# Altium integrated library Capacitor - Aluminium TH.IntLib: 4591 symbols (part 26 of 68)
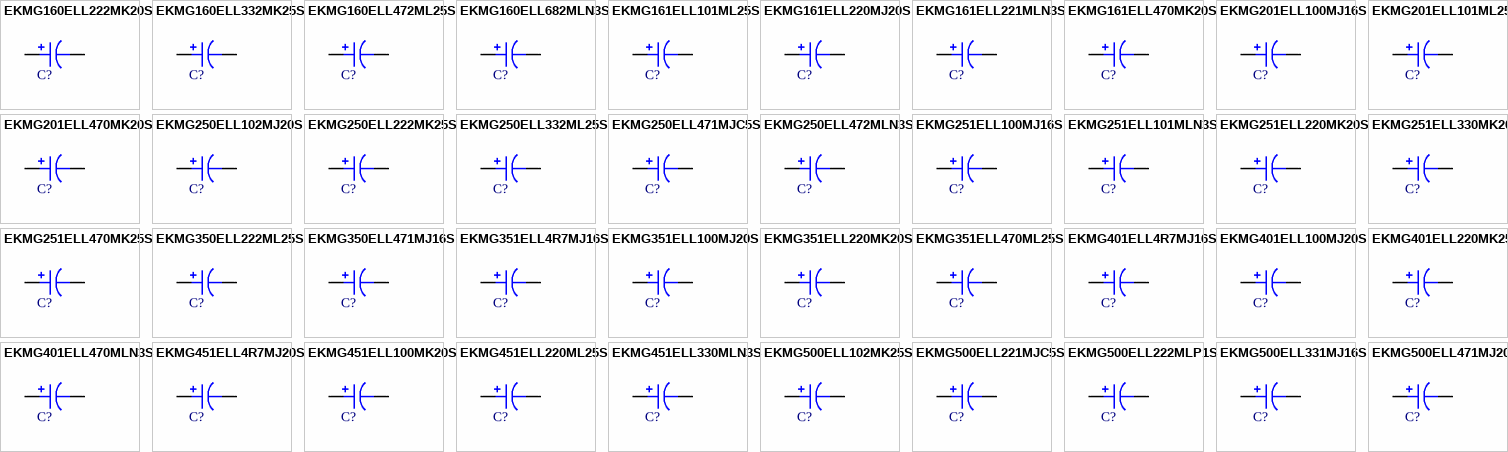
[diagram p139: symbols EKMG160ELL222MK20S to EKMG500ELL471MJ20S]

## EKMG250ELL472MLN3S
designator C?, comment 4700uF  (value not drawn)
CAP ALUM 4700UF 20% 25V RADIAL; Part Number: EKMG250ELL472MLN3S; Manufacturer: United Chemi-Con; TemperatureRange: -55C ~ 105C; Type: Polar; Ripple Current: 1.71A @ 120Hz; Value: 4700uF; PartId: 27086; Supplier 1: Digi-Key; Supplier Part Number 1: 565-1314-ND; ComponentLink1Description: Datasheet; ComponentLink1URL: http://www.chemi-con.co.jp/cgi-bin/CAT_DB/SEARCH/cat_db_al.cgi?e=e&j=p&pdfname=kmg; ComponentLink2Description: Digi-Key Listing; ComponentLink2URL: https://www.digikey.com/product-detail/en/united-chemi-con/EKMG250ELL472MLN3S/565-1314-ND/755830; Tolerance: 20%; Voltage: 25V; Price: 1.71; Device Package: Radial, Can, 16mm
footprint CAP AL TH D16 L7.5 H33.5
pins: 1, 2

## EKMG251ELL100MJ16S
designator C?, comment 10uF  (value not drawn)
CAP ALUM 10UF 20% 250V RADIAL; Part Number: EKMG251ELL100MJ16S; Manufacturer: United Chemi-Con; TemperatureRange: -40C ~ 105C; Type: Polar; Ripple Current: 74mA @ 120Hz; Value: 10uF; PartId: 25348; Supplier 1: Digi-Key; Supplier Part Number 1: 565-1393-ND; ComponentLink1Description: Datasheet; ComponentLink1URL: http://www.chemi-con.co.jp/cgi-bin/CAT_DB/SEARCH/cat_db_al.cgi?e=e&j=p&pdfname=kmg; ComponentLink2Description: Digi-Key Listing; ComponentLink2URL: https://www.digikey.com/product-detail/en/united-chemi-con/EKMG251ELL100MJ16S/565-1393-ND/755909; Tolerance: 20%; Voltage: 250V; Price: 0.68; Device Package: Radial, Can, 10mm
footprint CAP AL TH D10 L5 H17.5
pins: 1, 2

## EKMG251ELL101MLN3S
designator C?, comment 100uF  (value not drawn)
CAP ALUM 100UF 20% 250V RADIAL; Part Number: EKMG251ELL101MLN3S; Manufacturer: United Chemi-Con; TemperatureRange: -40C ~ 105C; Type: Polar; Ripple Current: 365mA @ 120Hz; Value: 100uF; PartId: 27159; Supplier 1: Digi-Key; Supplier Part Number 1: 565-1397-ND; ComponentLink1Description: Datasheet; ComponentLink1URL: http://www.chemi-con.co.jp/cgi-bin/CAT_DB/SEARCH/cat_db_al.cgi?e=e&j=p&pdfname=kmg; ComponentLink2Description: Digi-Key Listing; ComponentLink2URL: https://www.digikey.com/product-detail/en/united-chemi-con/EKMG251ELL101MLN3S/565-1397-ND/755913; Tolerance: 20%; Voltage: 250V; Price: 1.87; Device Package: Radial, Can, 16mm
footprint CAP AL TH D16 L7.5 H33.5
pins: 1, 2

## EKMG251ELL220MK20S
designator C?, comment 22uF  (value not drawn)
CAP ALUM 22UF 20% 250V RADIAL; Part Number: EKMG251ELL220MK20S; Manufacturer: United Chemi-Con; TemperatureRange: -40C ~ 105C; Type: Polar; Ripple Current: 130mA @ 120Hz; Value: 22uF; PartId: 23006; Supplier 1: Digi-Key; Supplier Part Number 1: 565-1394-ND; ComponentLink1Description: Datasheet; ComponentLink1URL: http://www.chemi-con.co.jp/cgi-bin/CAT_DB/SEARCH/cat_db_al.cgi?e=e&j=p&pdfname=kmg; ComponentLink2Description: Digi-Key Listing; ComponentLink2URL: https://www.digikey.com/product-detail/en/united-chemi-con/EKMG251ELL220MK20S/565-1394-ND/755910; Tolerance: 20%; Voltage: 250V; Price: 0; Device Package: Radial, Can, 12.5mm
footprint CAP AL TH D12.5 L5 H21.5
pins: 1, 2

## EKMG251ELL330MK20S
designator C?, comment 33uF  (value not drawn)
CAP ALUM 33UF 20% 250V RADIAL; Part Number: EKMG251ELL330MK20S; Manufacturer: United Chemi-Con; TemperatureRange: -40C ~ 105C; Type: Polar; Ripple Current: 160mA @ 120Hz; Value: 33uF; PartId: 23022; Supplier 1: Digi-Key; Supplier Part Number 1: 565-1395-ND; ComponentLink1Description: Datasheet; ComponentLink1URL: http://www.chemi-con.co.jp/cgi-bin/CAT_DB/SEARCH/cat_db_al.cgi?e=e&j=p&pdfname=kmg; ComponentLink2Description: Digi-Key Listing; ComponentLink2URL: https://www.digikey.com/product-detail/en/united-chemi-con/EKMG251ELL330MK20S/565-1395-ND/755911; Tolerance: 20%; Voltage: 250V; Price: 0; Device Package: Radial, Can, 12.5mm
footprint CAP AL TH D12.5 L5 H21.5
pins: 1, 2

## EKMG251ELL470MK25S
designator C?, comment 47uF  (value not drawn)
CAP ALUM 47UF 20% 250V RADIAL; Part Number: EKMG251ELL470MK25S; Manufacturer: United Chemi-Con; TemperatureRange: -40C ~ 105C; Type: Polar; Ripple Current: 210mA @ 120Hz; Value: 47uF; PartId: 23718; Supplier 1: Digi-Key; Supplier Part Number 1: 565-1396-ND; ComponentLink1Description: Datasheet; ComponentLink1URL: http://www.chemi-con.co.jp/cgi-bin/CAT_DB/SEARCH/cat_db_al.cgi?e=e&j=p&pdfname=kmg; ComponentLink2Description: Digi-Key Listing; ComponentLink2URL: https://www.digikey.com/product-detail/en/united-chemi-con/EKMG251ELL470MK25S/565-1396-ND/755912; Tolerance: 20%; Voltage: 250V; Price: 1.22; Device Package: Radial, Can, 12.5mm
footprint CAP AL TH D12.5 L5 H26.5
pins: 1, 2

## EKMG350ELL222ML25S
designator C?, comment 2200uF  (value not drawn)
CAP ALUM 2200UF 20% 35V RADIAL; Part Number: EKMG350ELL222ML25S; Manufacturer: United Chemi-Con; TemperatureRange: -55C ~ 105C; Type: Polar; Ripple Current: 1.26A @ 120Hz; Value: 2200uF; PartId: 26601; Supplier 1: Digi-Key; Supplier Part Number 1: 565-1326-ND; ComponentLink1Description: Datasheet; ComponentLink1URL: http://www.chemi-con.co.jp/cgi-bin/CAT_DB/SEARCH/cat_db_al.cgi?e=e&j=p&pdfname=kmg; ComponentLink2Description: Digi-Key Listing; ComponentLink2URL: https://www.digikey.com/product-detail/en/united-chemi-con/EKMG350ELL222ML25S/565-1326-ND/755842; Tolerance: 20%; Voltage: 35V; Price: 1.33; Device Package: Radial, Can, 16mm
footprint CAP AL TH D16 L7.5 H26.5
pins: 1, 2

## EKMG350ELL471MJ16S
designator C?, comment 470uF  (value not drawn)
CAP ALUM 470UF 20% 35V RADIAL; Part Number: EKMG350ELL471MJ16S; Manufacturer: United Chemi-Con; TemperatureRange: -55C ~ 105C; Type: Polar; Ripple Current: 460mA @ 120Hz; Value: 470uF; PartId: 25272; Supplier 1: Digi-Key; Supplier Part Number 1: 565-1324-ND; ComponentLink1Description: Datasheet; ComponentLink1URL: http://www.chemi-con.co.jp/cgi-bin/CAT_DB/SEARCH/cat_db_al.cgi?e=e&j=p&pdfname=kmg; ComponentLink2Description: Digi-Key Listing; ComponentLink2URL: https://www.digikey.com/product-detail/en/united-chemi-con/EKMG350ELL471MJ16S/565-1324-ND/755840; Tolerance: 20%; Voltage: 35V; Price: 0.61; Device Package: Radial, Can, 10mm
footprint CAP AL TH D10 L5 H17.5
pins: 1, 2

## EKMG351ELL4R7MJ16S
designator C?, comment 4.7uF  (value not drawn)
CAP ALUM 4.7UF 20% 350V RADIAL; Part Number: EKMG351ELL4R7MJ16S; Manufacturer: United Chemi-Con; TemperatureRange: -40C ~ 105C; Type: Polar; Ripple Current: 50mA @ 120Hz; Value: 4.7uF; PartId: 25362; Supplier 1: Digi-Key; Supplier Part Number 1: 565-1403-ND; ComponentLink1Description: Datasheet; ComponentLink1URL: http://www.chemi-con.co.jp/cgi-bin/CAT_DB/SEARCH/cat_db_al.cgi?e=e&j=p&pdfname=kmg; ComponentLink2Description: Digi-Key Listing; ComponentLink2URL: https://www.digikey.com/product-detail/en/united-chemi-con/EKMG351ELL4R7MJ16S/565-1403-ND/755919; Tolerance: 20%; Voltage: 350V; Price: 0.71; Device Package: Radial, Can, 10mm
footprint CAP AL TH D10 L5 H17.5
pins: 1, 2

## EKMG351ELL100MJ20S
designator C?, comment 10uF  (value not drawn)
CAP ALUM 10UF 20% 350V RADIAL; Part Number: EKMG351ELL100MJ20S; Manufacturer: United Chemi-Con; TemperatureRange: -40C ~ 105C; Type: Polar; Ripple Current: 80mA @ 120Hz; Value: 10uF; PartId: 25678; Supplier 1: Digi-Key; Supplier Part Number 1: 565-1404-ND; ComponentLink1Description: Datasheet; ComponentLink1URL: http://www.chemi-con.co.jp/cgi-bin/CAT_DB/SEARCH/cat_db_al.cgi?e=e&j=p&pdfname=kmg; ComponentLink2Description: Digi-Key Listing; ComponentLink2URL: https://www.digikey.com/product-detail/en/united-chemi-con/EKMG351ELL100MJ20S/565-1404-ND/755920; Tolerance: 20%; Voltage: 350V; Price: 0.79; Device Package: Radial, Can, 10mm
footprint CAP AL TH D10 L5 H22
pins: 1, 2

## EKMG351ELL220MK20S
designator C?, comment 22uF  (value not drawn)
CAP ALUM 22UF 20% 350V RADIAL; Part Number: EKMG351ELL220MK20S; Manufacturer: United Chemi-Con; TemperatureRange: -40C ~ 105C; Type: Polar; Ripple Current: 130mA @ 120Hz; Value: 22uF; PartId: 23037; Supplier 1: Digi-Key; Supplier Part Number 1: 565-1405-ND; ComponentLink1Description: Datasheet; ComponentLink1URL: http://www.chemi-con.co.jp/cgi-bin/CAT_DB/SEARCH/cat_db_al.cgi?e=e&j=p&pdfname=kmg; ComponentLink2Description: Digi-Key Listing; ComponentLink2URL: https://www.digikey.com/product-detail/en/united-chemi-con/EKMG351ELL220MK20S/565-1405-ND/755921; Tolerance: 20%; Voltage: 350V; Price: 0; Device Package: Radial, Can, 12.5mm
footprint CAP AL TH D12.5 L5 H21.5
pins: 1, 2

## EKMG351ELL470ML25S
designator C?, comment 47uF  (value not drawn)
CAP ALUM 47UF 20% 350V RADIAL; Part Number: EKMG351ELL470ML25S; Manufacturer: United Chemi-Con; TemperatureRange: -40C ~ 105C; Type: Polar; Ripple Current: 230mA @ 120Hz; Value: 47uF; PartId: 26689; Supplier 1: Digi-Key; Supplier Part Number 1: 565-1407-ND; ComponentLink1Description: Datasheet; ComponentLink1URL: http://www.chemi-con.co.jp/cgi-bin/CAT_DB/SEARCH/cat_db_al.cgi?e=e&j=p&pdfname=kmg; ComponentLink2Description: Digi-Key Listing; ComponentLink2URL: https://www.digikey.com/product-detail/en/united-chemi-con/EKMG351ELL470ML25S/565-1407-ND/755923; Tolerance: 20%; Voltage: 350V; Price: 1.83; Device Package: Radial, Can, 16mm
footprint CAP AL TH D16 L7.5 H26.5
pins: 1, 2

## EKMG401ELL4R7MJ16S
designator C?, comment 4.7uF  (value not drawn)
CAP ALUM 4.7UF 20% 400V RADIAL; Part Number: EKMG401ELL4R7MJ16S; Manufacturer: United Chemi-Con; TemperatureRange: -40C ~ 105C; Type: Polar; Ripple Current: 50mA @ 120Hz; Value: 4.7uF; PartId: 25301; Supplier 1: Digi-Key; Supplier Part Number 1: 565-1411-ND; ComponentLink1Description: Datasheet; ComponentLink1URL: http://www.chemi-con.co.jp/cgi-bin/CAT_DB/SEARCH/cat_db_al.cgi?e=e&j=p&pdfname=kmg; ComponentLink2Description: Digi-Key Listing; ComponentLink2URL: https://www.digikey.com/product-detail/en/united-chemi-con/EKMG401ELL4R7MJ16S/565-1411-ND/755927; Tolerance: 20%; Voltage: 400V; Price: 0.64; Device Package: Radial, Can, 10mm
footprint CAP AL TH D10 L5 H17.5
pins: 1, 2

## EKMG401ELL100MJ20S
designator C?, comment 10uF  (value not drawn)
CAP ALUM 10UF 20% 400V RADIAL; Part Number: EKMG401ELL100MJ20S; Manufacturer: United Chemi-Con; TemperatureRange: -40C ~ 105C; Type: Polar; Ripple Current: 80mA @ 120Hz; Value: 10uF; PartId: 25646; Supplier 1: Digi-Key; Supplier Part Number 1: 565-1412-ND; ComponentLink1Description: Datasheet; ComponentLink1URL: http://www.chemi-con.co.jp/cgi-bin/CAT_DB/SEARCH/cat_db_al.cgi?e=e&j=p&pdfname=kmg; ComponentLink2Description: Digi-Key Listing; ComponentLink2URL: https://www.digikey.com/product-detail/en/united-chemi-con/EKMG401ELL100MJ20S/565-1412-ND/755928; Tolerance: 20%; Voltage: 400V; Price: 0.74; Device Package: Radial, Can, 10mm
footprint CAP AL TH D10 L5 H22
pins: 1, 2

## EKMG401ELL220MK25S
designator C?, comment 22uF  (value not drawn)
CAP ALUM 22UF 20% 400V RADIAL; Part Number: EKMG401ELL220MK25S; Manufacturer: United Chemi-Con; TemperatureRange: -40C ~ 105C; Type: Polar; Ripple Current: 145mA @ 120Hz; Value: 22uF; PartId: 23696; Supplier 1: Digi-Key; Supplier Part Number 1: 565-1413-ND; ComponentLink1Description: Datasheet; ComponentLink1URL: http://www.chemi-con.co.jp/cgi-bin/CAT_DB/SEARCH/cat_db_al.cgi?e=e&j=p&pdfname=kmg; ComponentLink2Description: Digi-Key Listing; ComponentLink2URL: https://www.digikey.com/product-detail/en/united-chemi-con/EKMG401ELL220MK25S/565-1413-ND/755929; Tolerance: 20%; Voltage: 400V; Price: 1.09; Device Package: Radial, Can, 12.5mm
footprint CAP AL TH D12.5 L5 H26.5
pins: 1, 2

## EKMG401ELL470MLN3S
designator C?, comment 47uF  (value not drawn)
CAP ALUM 47UF 20% 400V RADIAL; Part Number: EKMG401ELL470MLN3S; Manufacturer: United Chemi-Con; TemperatureRange: -40C ~ 105C; Type: Polar; Ripple Current: 250mA @ 120Hz; Value: 47uF; PartId: 27154; Supplier 1: Digi-Key; Supplier Part Number 1: 565-1415-ND; ComponentLink1Description: Datasheet; ComponentLink1URL: http://www.chemi-con.co.jp/cgi-bin/CAT_DB/SEARCH/cat_db_al.cgi?e=e&j=p&pdfname=kmg; ComponentLink2Description: Digi-Key Listing; ComponentLink2URL: https://www.digikey.com/product-detail/en/united-chemi-con/EKMG401ELL470MLN3S/565-1415-ND/755931; Tolerance: 20%; Voltage: 400V; Price: 1.86; Device Package: Radial, Can, 16mm
footprint CAP AL TH D16 L7.5 H33.5
pins: 1, 2

## EKMG451ELL4R7MJ20S
designator C?, comment 4.7uF  (value not drawn)
CAP ALUM 4.7UF 20% 450V RADIAL; Part Number: EKMG451ELL4R7MJ20S; Manufacturer: United Chemi-Con; TemperatureRange: -25C ~ 105C; Type: Polar; Ripple Current: 40mA @ 120Hz; Value: 4.7uF; PartId: 25669; Supplier 1: Digi-Key; Supplier Part Number 1: 565-1420-ND; ComponentLink1Description: Datasheet; ComponentLink1URL: http://www.chemi-con.co.jp/cgi-bin/CAT_DB/SEARCH/cat_db_al.cgi?e=e&j=p&pdfname=kmg; ComponentLink2Description: Digi-Key Listing; ComponentLink2URL: https://www.digikey.com/product-detail/en/united-chemi-con/EKMG451ELL4R7MJ20S/565-1420-ND/755936; Tolerance: 20%; Voltage: 450V; Price: 0.77; Device Package: Radial, Can, 10mm
footprint CAP AL TH D10 L5 H22
pins: 1, 2

## EKMG451ELL100MK20S
designator C?, comment 10uF  (value not drawn)
CAP ALUM 10UF 20% 450V RADIAL; Part Number: EKMG451ELL100MK20S; Manufacturer: United Chemi-Con; TemperatureRange: -25C ~ 105C; Type: Polar; Ripple Current: 65mA @ 120Hz; Value: 10uF; PartId: 23025; Supplier 1: Digi-Key; Supplier Part Number 1: 565-1421-ND; ComponentLink1Description: Datasheet; ComponentLink1URL: http://www.chemi-con.co.jp/cgi-bin/CAT_DB/SEARCH/cat_db_al.cgi?e=e&j=p&pdfname=kmg; ComponentLink2Description: Digi-Key Listing; ComponentLink2URL: https://www.digikey.com/product-detail/en/united-chemi-con/EKMG451ELL100MK20S/565-1421-ND/755937; Tolerance: 20%; Voltage: 450V; Price: 0; Device Package: Radial, Can, 12.5mm
footprint CAP AL TH D12.5 L5 H21.5
pins: 1, 2

## EKMG451ELL220ML25S
designator C?, comment 22uF  (value not drawn)
CAP ALUM 22UF 20% 450V RADIAL; Part Number: EKMG451ELL220ML25S; Manufacturer: United Chemi-Con; TemperatureRange: -25C ~ 105C; Type: Polar; Ripple Current: 115mA @ 120Hz; Value: 22uF; PartId: 26686; Supplier 1: Digi-Key; Supplier Part Number 1: 565-1422-ND; ComponentLink1Description: Datasheet; ComponentLink1URL: http://www.chemi-con.co.jp/cgi-bin/CAT_DB/SEARCH/cat_db_al.cgi?e=e&j=p&pdfname=kmg; ComponentLink2Description: Digi-Key Listing; ComponentLink2URL: https://www.digikey.com/product-detail/en/united-chemi-con/EKMG451ELL220ML25S/565-1422-ND/755938; Tolerance: 20%; Voltage: 450V; Price: 1.81; Device Package: Radial, Can, 16mm
footprint CAP AL TH D16 L7.5 H26.5
pins: 1, 2

## EKMG451ELL330MLN3S
designator C?, comment 33uF  (value not drawn)
CAP ALUM 33UF 20% 450V RADIAL; Part Number: EKMG451ELL330MLN3S; Manufacturer: United Chemi-Con; TemperatureRange: -25C ~ 105C; Type: Polar; Ripple Current: 155mA @ 120Hz; Value: 33uF; PartId: 27205; Supplier 1: Digi-Key; Supplier Part Number 1: 565-1423-ND; ComponentLink1Description: Datasheet; ComponentLink1URL: http://www.chemi-con.co.jp/cgi-bin/CAT_DB/SEARCH/cat_db_al.cgi?e=e&j=p&pdfname=kmg; ComponentLink2Description: Digi-Key Listing; ComponentLink2URL: https://www.digikey.com/product-detail/en/united-chemi-con/EKMG451ELL330MLN3S/565-1423-ND/755939; Tolerance: 20%; Voltage: 450V; Price: 2.13; Device Package: Radial, Can, 16mm
footprint CAP AL TH D16 L7.5 H33.5
pins: 1, 2

## EKMG500ELL102MK25S
designator C?, comment 1000uF  (value not drawn)
CAP ALUM 1000UF 20% 50V RADIAL; Part Number: EKMG500ELL102MK25S; Manufacturer: United Chemi-Con; TemperatureRange: -55C ~ 105C; Type: Polar; Ripple Current: 950mA @ 120Hz; Value: 1000uF; PartId: 23670; Supplier 1: Digi-Key; Supplier Part Number 1: 565-1344-ND; ComponentLink1Description: Datasheet; ComponentLink1URL: http://www.chemi-con.co.jp/cgi-bin/CAT_DB/SEARCH/cat_db_al.cgi?e=e&j=p&pdfname=kmg; ComponentLink2Description: Digi-Key Listing; ComponentLink2URL: https://www.digikey.com/product-detail/en/united-chemi-con/EKMG500ELL102MK25S/565-1344-ND/755860; Tolerance: 20%; Voltage: 50V; Price: 0.99; Device Package: Radial, Can, 12.5mm
footprint CAP AL TH D12.5 L5 H26.5
pins: 1, 2

## EKMG500ELL221MJC5S
designator C?, comment 220uF  (value not drawn)
CAP ALUM 220UF 20% 50V RADIAL; Part Number: EKMG500ELL221MJC5S; Manufacturer: United Chemi-Con; TemperatureRange: -55C ~ 105C; Type: Polar; Ripple Current: 300mA @ 120Hz; Value: 220uF; PartId: 24986; Supplier 1: Digi-Key; Supplier Part Number 1: 565-1341-ND; ComponentLink1Description: Datasheet; ComponentLink1URL: http://www.chemi-con.co.jp/cgi-bin/CAT_DB/SEARCH/cat_db_al.cgi?e=e&j=p&pdfname=kmg; ComponentLink2Description: Digi-Key Listing; ComponentLink2URL: https://www.digikey.com/product-detail/en/united-chemi-con/EKMG500ELL221MJC5S/565-1341-ND/755857; Tolerance: 20%; Voltage: 50V; Price: 0.55; Device Package: Radial, Can, 10mm
footprint CAP AL TH D10 L5 H14.5
pins: 1, 2

## EKMG500ELL222MLP1S
designator C?, comment 2200uF  (value not drawn)
CAP ALUM 2200UF 20% 50V RADIAL; Part Number: EKMG500ELL222MLP1S; Manufacturer: United Chemi-Con; TemperatureRange: -55C ~ 105C; Type: Polar; Ripple Current: 1.47A @ 120Hz; Value: 2200uF; PartId: 27383; Supplier 1: Digi-Key; Supplier Part Number 1: 565-1345-ND; ComponentLink1Description: Datasheet; ComponentLink1URL: http://www.chemi-con.co.jp/cgi-bin/CAT_DB/SEARCH/cat_db_al.cgi?e=e&j=p&pdfname=kmg; ComponentLink2Description: Digi-Key Listing; ComponentLink2URL: https://www.digikey.com/product-detail/en/united-chemi-con/EKMG500ELL222MLP1S/565-1345-ND/755861; Tolerance: 20%; Voltage: 50V; Price: 1.86; Device Package: Radial, Can, 16mm
footprint CAP AL TH D16 L7.5 H37
pins: 1, 2

## EKMG500ELL331MJ16S
designator C?, comment 330uF  (value not drawn)
CAP ALUM 330UF 20% 50V RADIAL; Part Number: EKMG500ELL331MJ16S; Manufacturer: United Chemi-Con; TemperatureRange: -55C ~ 105C; Type: Polar; Ripple Current: 410mA @ 120Hz; Value: 330uF; PartId: 25277; Supplier 1: Digi-Key; Supplier Part Number 1: 565-1342-ND; ComponentLink1Description: Datasheet; ComponentLink1URL: http://www.chemi-con.co.jp/cgi-bin/CAT_DB/SEARCH/cat_db_al.cgi?e=e&j=p&pdfname=kmg; ComponentLink2Description: Digi-Key Listing; ComponentLink2URL: https://www.digikey.com/product-detail/en/united-chemi-con/EKMG500ELL331MJ16S/565-1342-ND/755858; Tolerance: 20%; Voltage: 50V; Price: 0.62; Device Package: Radial, Can, 10mm
footprint CAP AL TH D10 L5 H17.5
pins: 1, 2

## EKMG500ELL471MJ20S
designator C?, comment 470uF  (value not drawn)
CAP ALUM 470UF 20% 50V RADIAL; Part Number: EKMG500ELL471MJ20S; Manufacturer: United Chemi-Con; TemperatureRange: -55C ~ 105C; Type: Polar; Ripple Current: 530mA @ 120Hz; Value: 470uF; PartId: 25612; Supplier 1: Digi-Key; Supplier Part Number 1: 565-1343-ND; ComponentLink1Description: Datasheet; ComponentLink1URL: http://www.chemi-con.co.jp/cgi-bin/CAT_DB/SEARCH/cat_db_al.cgi?e=e&j=p&pdfname=kmg; ComponentLink2Description: Digi-Key Listing; ComponentLink2URL: https://www.digikey.com/product-detail/en/united-chemi-con/EKMG500ELL471MJ20S/565-1343-ND/755859; Tolerance: 20%; Voltage: 50V; Price: 0.7; Device Package: Radial, Can, 10mm
footprint CAP AL TH D10 L5 H22
pins: 1, 2

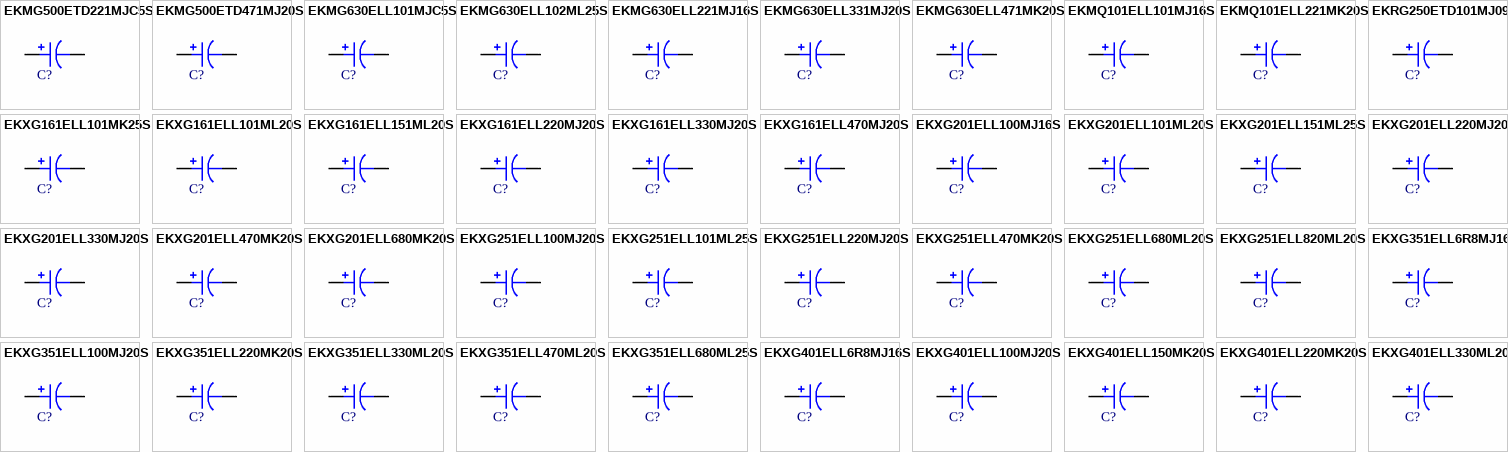
[diagram p42: symbols EKMG500ETD221MJC5S to EKXG401ELL330ML20S]

## EKMG500ETD221MJC5S
designator C?, comment 220uF  (value not drawn)
CAP ALUM 220UF 20% 50V RADIAL; Part Number: EKMG500ETD221MJC5S; Manufacturer: United Chemi-Con; TemperatureRange: -55C ~ 105C; Type: Polar; Ripple Current: 300mA @ 120Hz; Value: 220uF; PartId: 24583; Supplier 1: Digi-Key; Supplier Part Number 1: 565-3744-3-ND; ComponentLink1Description: Datasheet; ComponentLink1URL: http://www.chemi-con.co.jp/cgi-bin/CAT_DB/SEARCH/cat_db_al.cgi?e=e&j=p&pdfname=kmg; ComponentLink2Description: Digi-Key Listing; ComponentLink2URL: https://www.digikey.com/product-detail/en/united-chemi-con/EKMG500ETD221MJC5S/565-3744-3-ND/4000028; Tolerance: 20%; Voltage: 50V; Price: 0.1674; Device Package: Radial, Can, 10mm
footprint CAP AL TH D10 L5 H14.5
pins: 1, 2

## EKMG500ETD471MJ20S
designator C?, comment 470uF  (value not drawn)
CAP ALUM 470UF 20% 50V RADIAL; Part Number: EKMG500ETD471MJ20S; Manufacturer: United Chemi-Con; TemperatureRange: -55C ~ 105C; Type: Polar; Ripple Current: 530mA @ 120Hz; Value: 470uF; PartId: 25455; Supplier 1: Digi-Key; Supplier Part Number 1: 565-3745-3-ND; ComponentLink1Description: Datasheet; ComponentLink1URL: http://www.chemi-con.co.jp/cgi-bin/CAT_DB/SEARCH/cat_db_al.cgi?e=e&j=p&pdfname=kmg; ComponentLink2Description: Digi-Key Listing; ComponentLink2URL: https://www.digikey.com/product-detail/en/united-chemi-con/EKMG500ETD471MJ20S/565-3745-3-ND/4000033; Tolerance: 20%; Voltage: 50V; Price: 0.216; Device Package: Radial, Can, 10mm
footprint CAP AL TH D10 L5 H22
pins: 1, 2

## EKMG630ELL101MJC5S
designator C?, comment 100uF  (value not drawn)
CAP ALUM 100UF 20% 63V RADIAL; Part Number: EKMG630ELL101MJC5S; Manufacturer: United Chemi-Con; TemperatureRange: -55C ~ 105C; Type: Polar; Ripple Current: 215mA @ 120Hz; Value: 100uF; PartId: 24962; Supplier 1: Digi-Key; Supplier Part Number 1: 565-1351-ND; ComponentLink1Description: Datasheet; ComponentLink1URL: http://www.chemi-con.co.jp/cgi-bin/CAT_DB/SEARCH/cat_db_al.cgi?e=e&j=p&pdfname=kmg; ComponentLink2Description: Digi-Key Listing; ComponentLink2URL: https://www.digikey.com/product-detail/en/united-chemi-con/EKMG630ELL101MJC5S/565-1351-ND/755867; Tolerance: 20%; Voltage: 63V; Price: 0.53; Device Package: Radial, Can, 10mm
footprint CAP AL TH D10 L5 H14.5
pins: 1, 2

## EKMG630ELL102ML25S
designator C?, comment 1000uF  (value not drawn)
CAP ALUM 1000UF 20% 63V RADIAL; Part Number: EKMG630ELL102ML25S; Manufacturer: United Chemi-Con; TemperatureRange: -55C ~ 105C; Type: Polar; Ripple Current: 930mA @ 120Hz; Value: 1000uF; PartId: 26658; Supplier 1: Digi-Key; Supplier Part Number 1: 565-1355-ND; ComponentLink1Description: Datasheet; ComponentLink1URL: http://www.chemi-con.co.jp/cgi-bin/CAT_DB/SEARCH/cat_db_al.cgi?e=e&j=p&pdfname=kmg; ComponentLink2Description: Digi-Key Listing; ComponentLink2URL: https://www.digikey.com/product-detail/en/united-chemi-con/EKMG630ELL102ML25S/565-1355-ND/755871; Tolerance: 20%; Voltage: 63V; Price: 1.6; Device Package: Radial, Can, 16mm
footprint CAP AL TH D16 L7.5 H26.5
pins: 1, 2

## EKMG630ELL221MJ16S
designator C?, comment 220uF  (value not drawn)
CAP ALUM 220UF 20% 63V RADIAL; Part Number: EKMG630ELL221MJ16S; Manufacturer: United Chemi-Con; TemperatureRange: -55C ~ 105C; Type: Polar; Ripple Current: 335mA @ 120Hz; Value: 220uF; PartId: 25278; Supplier 1: Digi-Key; Supplier Part Number 1: 565-1352-ND; ComponentLink1Description: Datasheet; ComponentLink1URL: http://www.chemi-con.co.jp/cgi-bin/CAT_DB/SEARCH/cat_db_al.cgi?e=e&j=p&pdfname=kmg; ComponentLink2Description: Digi-Key Listing; ComponentLink2URL: https://www.digikey.com/product-detail/en/united-chemi-con/EKMG630ELL221MJ16S/565-1352-ND/755868; Tolerance: 20%; Voltage: 63V; Price: 0.62; Device Package: Radial, Can, 10mm
footprint CAP AL TH D10 L5 H17.5
pins: 1, 2

## EKMG630ELL331MJ20S
designator C?, comment 330uF  (value not drawn)
CAP ALUM 330UF 20% 63V RADIAL; Part Number: EKMG630ELL331MJ20S; Manufacturer: United Chemi-Con; TemperatureRange: -55C ~ 105C; Type: Polar; Ripple Current: 510mA @ 120Hz; Value: 330uF; PartId: 25608; Supplier 1: Digi-Key; Supplier Part Number 1: 565-1353-ND; ComponentLink1Description: Datasheet; ComponentLink1URL: http://www.chemi-con.co.jp/cgi-bin/CAT_DB/SEARCH/cat_db_al.cgi?e=e&j=p&pdfname=kmg; ComponentLink2Description: Digi-Key Listing; ComponentLink2URL: https://www.digikey.com/product-detail/en/united-chemi-con/EKMG630ELL331MJ20S/565-1353-ND/755869; Tolerance: 20%; Voltage: 63V; Price: 0.7; Device Package: Radial, Can, 10mm
footprint CAP AL TH D10 L5 H22
pins: 1, 2

## EKMG630ELL471MK20S
designator C?, comment 470uF  (value not drawn)
CAP ALUM 470UF 20% 63V RADIAL; Part Number: EKMG630ELL471MK20S; Manufacturer: United Chemi-Con; TemperatureRange: -55C ~ 105C; Type: Polar; Ripple Current: 640mA @ 120Hz; Value: 470uF; PartId: 22978; Supplier 1: Digi-Key; Supplier Part Number 1: 565-1354-ND; ComponentLink1Description: Datasheet; ComponentLink1URL: http://www.chemi-con.co.jp/cgi-bin/CAT_DB/SEARCH/cat_db_al.cgi?e=e&j=p&pdfname=kmg; ComponentLink2Description: Digi-Key Listing; ComponentLink2URL: https://www.digikey.com/product-detail/en/united-chemi-con/EKMG630ELL471MK20S/565-1354-ND/755870; Tolerance: 20%; Voltage: 63V; Price: 0; Device Package: Radial, Can, 12.5mm
footprint CAP AL TH D12.5 L5 H21.5
pins: 1, 2

## EKMQ101ELL101MJ16S
designator C?, comment 100uF  (value not drawn)
CAP ALUM 100UF 20% 100V RADIAL; Part Number: EKMQ101ELL101MJ16S; Manufacturer: United Chemi-Con; TemperatureRange: -55C ~ 105C; Type: Polar; Ripple Current: 240mA @ 120Hz; Value: 100uF; PartId: 25365; Supplier 1: Digi-Key; Supplier Part Number 1: 565-4210-ND; ComponentLink1Description: Datasheet; ComponentLink1URL: http://www.chemi-con.co.jp/cgi-bin/CAT_DB/SEARCH/cat_db_al.cgi?e=e&j=p&pdfname=kmq; ComponentLink2Description: Digi-Key Listing; ComponentLink2URL: https://www.digikey.com/product-detail/en/united-chemi-con/EKMQ101ELL101MJ16S/565-4210-ND/3983006; Tolerance: 20%; Voltage: 100V; Price: 0.72; Device Package: Radial, Can, 10mm
footprint CAP AL TH D10 L5 H17.5
pins: 1, 2

## EKMQ101ELL221MK20S
designator C?, comment 220uF  (value not drawn)
CAP ALUM 220UF 20% 100V RADIAL; Part Number: EKMQ101ELL221MK20S; Manufacturer: United Chemi-Con; TemperatureRange: -55C ~ 105C; Type: Polar; Ripple Current: 390mA @ 120Hz; Value: 220uF; PartId: 23044; Supplier 1: Digi-Key; Supplier Part Number 1: 565-4211-ND; ComponentLink1Description: Datasheet; ComponentLink1URL: http://www.chemi-con.co.jp/cgi-bin/CAT_DB/SEARCH/cat_db_al.cgi?e=e&j=p&pdfname=kmq; ComponentLink2Description: Digi-Key Listing; ComponentLink2URL: https://www.digikey.com/product-detail/en/united-chemi-con/EKMQ101ELL221MK20S/565-4211-ND/3983007; Tolerance: 20%; Voltage: 100V; Price: 0; Device Package: Radial, Can, 12.5mm
footprint CAP AL TH D12.5 L5 H21.5
pins: 1, 2

## EKRG250ETD101MJ09S
designator C?, comment 100uF  (value not drawn)
CAP ALUM 100UF 20% 25V RADIAL; Part Number: EKRG250ETD101MJ09S; Manufacturer: United Chemi-Con; TemperatureRange: -55C ~ 105C; Type: Polar; Value: 100uF; PartId: 24442; Supplier 1: Digi-Key; Supplier Part Number 1: 565-3344-3-ND; ComponentLink1Description: Datasheet; ComponentLink1URL: http://www.chemi-con.co.jp/cgi-bin/CAT_DB/SEARCH/cat_db_al.cgi?e=e&j=p&pdfname=krg; ComponentLink2Description: Digi-Key Listing; ComponentLink2URL: https://www.digikey.com/product-detail/en/united-chemi-con/EKRG250ETD101MJ09S/565-3344-3-ND/3504640; Tolerance: 20%; Voltage: 25V; Price: 0.1836; Device Package: Radial, Can, 10mm
footprint CAP AL TH D10 L5 H12.5
pins: 1, 2

## EKXG161ELL101MK25S
designator C?, comment 100uF  (value not drawn)
CAP ALUM 100UF 20% 160V RADIAL; Part Number: EKXG161ELL101MK25S; Manufacturer: United Chemi-Con; TemperatureRange: -40C ~ 105C; Type: Polar; Ripple Current: 620mA @ 120Hz; Value: 100uF; PartId: 23614; Supplier 1: Digi-Key; Supplier Part Number 1: 565-1427-ND; ComponentLink1Description: Datasheet; ComponentLink1URL: http://www.chemi-con.co.jp/cgi-bin/CAT_DB/SEARCH/cat_db_al.cgi?e=e&j=p&pdfname=kxg; ComponentLink2Description: Digi-Key Listing; ComponentLink2URL: https://www.digikey.com/product-detail/en/united-chemi-con/EKXG161ELL101MK25S/565-1427-ND/755943; Tolerance: 20%; Voltage: 160V; Price: 1.22; Device Package: Radial, Can, 12.5mm
footprint CAP AL TH D12.5 L5 H25
pins: 1, 2

## EKXG161ELL101ML20S
designator C?, comment 100uF  (value not drawn)
CAP ALUM 100UF 20% 160V RADIAL; Part Number: EKXG161ELL101ML20S; Manufacturer: United Chemi-Con; TemperatureRange: -40C ~ 105C; Type: Polar; Ripple Current: 630mA @ 120Hz; Value: 100uF; PartId: 26332; Supplier 1: Digi-Key; Supplier Part Number 1: 565-1428-ND; ComponentLink1Description: Datasheet; ComponentLink1URL: http://www.chemi-con.co.jp/cgi-bin/CAT_DB/SEARCH/cat_db_al.cgi?e=e&j=p&pdfname=kxg; ComponentLink2Description: Digi-Key Listing; ComponentLink2URL: https://www.digikey.com/product-detail/en/united-chemi-con/EKXG161ELL101ML20S/565-1428-ND/755944; Tolerance: 20%; Voltage: 160V; Price: 1.43; Device Package: Radial, Can, 16mm
footprint CAP AL TH D16 L7.5 H20
pins: 1, 2

## EKXG161ELL151ML20S
designator C?, comment 150uF  (value not drawn)
CAP ALUM 150UF 20% 160V RADIAL; Part Number: EKXG161ELL151ML20S; Manufacturer: United Chemi-Con; TemperatureRange: -40C ~ 105C; Type: Polar; Ripple Current: 770mA @ 120Hz; Value: 150uF; PartId: 26339; Supplier 1: Digi-Key; Supplier Part Number 1: 565-1429-ND; ComponentLink1Description: Datasheet; ComponentLink1URL: http://www.chemi-con.co.jp/cgi-bin/CAT_DB/SEARCH/cat_db_al.cgi?e=e&j=p&pdfname=kxg; ComponentLink2Description: Digi-Key Listing; ComponentLink2URL: https://www.digikey.com/product-detail/en/united-chemi-con/EKXG161ELL151ML20S/565-1429-ND/755945; Tolerance: 20%; Voltage: 160V; Price: 1.5; Device Package: Radial, Can, 16mm
footprint CAP AL TH D16 L7.5 H20
pins: 1, 2

## EKXG161ELL220MJ20S
designator C?, comment 22uF  (value not drawn)
CAP ALUM 22UF 20% 160V RADIAL; Part Number: EKXG161ELL220MJ20S; Manufacturer: United Chemi-Con; TemperatureRange: -40C ~ 105C; Type: Polar; Ripple Current: 200mA @ 120Hz; Value: 22uF; PartId: 25666; Supplier 1: Digi-Key; Supplier Part Number 1: 565-1424-ND; ComponentLink1Description: Datasheet; ComponentLink1URL: http://www.chemi-con.co.jp/cgi-bin/CAT_DB/SEARCH/cat_db_al.cgi?e=e&j=p&pdfname=kxg; ComponentLink2Description: Digi-Key Listing; ComponentLink2URL: https://www.digikey.com/product-detail/en/united-chemi-con/EKXG161ELL220MJ20S/565-1424-ND/755940; Tolerance: 20%; Voltage: 160V; Price: 0.76; Device Package: Radial, Can, 10mm
footprint CAP AL TH D10 L5 H22
pins: 1, 2

## EKXG161ELL330MJ20S
designator C?, comment 33uF  (value not drawn)
CAP ALUM 33UF 20% 160V RADIAL; Part Number: EKXG161ELL330MJ20S; Manufacturer: United Chemi-Con; TemperatureRange: -40C ~ 105C; Type: Polar; Ripple Current: 250mA @ 120Hz; Value: 33uF; PartId: 25673; Supplier 1: Digi-Key; Supplier Part Number 1: 565-1425-ND; ComponentLink1Description: Datasheet; ComponentLink1URL: http://www.chemi-con.co.jp/cgi-bin/CAT_DB/SEARCH/cat_db_al.cgi?e=e&j=p&pdfname=kxg; ComponentLink2Description: Digi-Key Listing; ComponentLink2URL: https://www.digikey.com/product-detail/en/united-chemi-con/EKXG161ELL330MJ20S/565-1425-ND/755941; Tolerance: 20%; Voltage: 160V; Price: 0.77; Device Package: Radial, Can, 10mm
footprint CAP AL TH D10 L5 H22
pins: 1, 2

## EKXG161ELL470MJ20S
designator C?, comment 47uF  (value not drawn)
CAP ALUM 47UF 20% 160V RADIAL; Part Number: EKXG161ELL470MJ20S; Manufacturer: United Chemi-Con; TemperatureRange: -40C ~ 105C; Type: Polar; Ripple Current: 300mA @ 120Hz; Value: 47uF; PartId: 25693; Supplier 1: Digi-Key; Supplier Part Number 1: 565-1426-ND; ComponentLink1Description: Datasheet; ComponentLink1URL: http://www.chemi-con.co.jp/cgi-bin/CAT_DB/SEARCH/cat_db_al.cgi?e=e&j=p&pdfname=kxg; ComponentLink2Description: Digi-Key Listing; ComponentLink2URL: https://www.digikey.com/product-detail/en/united-chemi-con/EKXG161ELL470MJ20S/565-1426-ND/755942; Tolerance: 20%; Voltage: 160V; Price: 0.82; Device Package: Radial, Can, 10mm
footprint CAP AL TH D10 L5 H22
pins: 1, 2

## EKXG201ELL100MJ16S
designator C?, comment 10uF  (value not drawn)
CAP ALUM 10UF 20% 200V RADIAL; Part Number: EKXG201ELL100MJ16S; Manufacturer: United Chemi-Con; TemperatureRange: -40C ~ 105C; Type: Polar; Ripple Current: 125mA @ 120Hz; Value: 10uF; PartId: 25314; Supplier 1: Digi-Key; Supplier Part Number 1: 565-1432-ND; ComponentLink1Description: Datasheet; ComponentLink1URL: http://www.chemi-con.co.jp/cgi-bin/CAT_DB/SEARCH/cat_db_al.cgi?e=e&j=p&pdfname=kxg; ComponentLink2Description: Digi-Key Listing; ComponentLink2URL: https://www.digikey.com/product-detail/en/united-chemi-con/EKXG201ELL100MJ16S/565-1432-ND/755948; Tolerance: 20%; Voltage: 200V; Price: 0.65; Device Package: Radial, Can, 10mm
footprint CAP AL TH D10 L5 H17.5
pins: 1, 2

## EKXG201ELL101ML20S
designator C?, comment 100uF  (value not drawn)
CAP ALUM 100UF 20% 200V RADIAL; Part Number: EKXG201ELL101ML20S; Manufacturer: United Chemi-Con; TemperatureRange: -40C ~ 105C; Type: Polar; Ripple Current: 630mA @ 120Hz; Value: 100uF; PartId: 26334; Supplier 1: Digi-Key; Supplier Part Number 1: 565-1437-ND; ComponentLink1Description: Datasheet; ComponentLink1URL: http://www.chemi-con.co.jp/cgi-bin/CAT_DB/SEARCH/cat_db_al.cgi?e=e&j=p&pdfname=kxg; ComponentLink2Description: Digi-Key Listing; ComponentLink2URL: https://www.digikey.com/product-detail/en/united-chemi-con/EKXG201ELL101ML20S/565-1437-ND/755953; Tolerance: 20%; Voltage: 200V; Price: 1.47; Device Package: Radial, Can, 16mm
footprint CAP AL TH D16 L7.5 H20
pins: 1, 2

## EKXG201ELL151ML25S
designator C?, comment 150uF  (value not drawn)
CAP ALUM 150UF 20% 200V RADIAL; Part Number: EKXG201ELL151ML25S; Manufacturer: United Chemi-Con; TemperatureRange: -40C ~ 105C; Type: Polar; Ripple Current: 840mA @ 120Hz; Value: 150uF; PartId: 26683; Supplier 1: Digi-Key; Supplier Part Number 1: 565-1438-ND; ComponentLink1Description: Datasheet; ComponentLink1URL: http://www.chemi-con.co.jp/cgi-bin/CAT_DB/SEARCH/cat_db_al.cgi?e=e&j=p&pdfname=kxg; ComponentLink2Description: Digi-Key Listing; ComponentLink2URL: https://www.digikey.com/product-detail/en/united-chemi-con/EKXG201ELL151ML25S/565-1438-ND/755954; Tolerance: 20%; Voltage: 200V; Price: 1.81; Device Package: Radial, Can, 16mm
footprint CAP AL TH D16 L7.5 H26.5
pins: 1, 2

## EKXG201ELL220MJ20S
designator C?, comment 22uF  (value not drawn)
CAP ALUM 22UF 20% 200V RADIAL; Part Number: EKXG201ELL220MJ20S; Manufacturer: United Chemi-Con; TemperatureRange: -40C ~ 105C; Type: Polar; Ripple Current: 200mA @ 120Hz; Value: 22uF; PartId: 25672; Supplier 1: Digi-Key; Supplier Part Number 1: 565-1433-ND; ComponentLink1Description: Datasheet; ComponentLink1URL: http://www.chemi-con.co.jp/cgi-bin/CAT_DB/SEARCH/cat_db_al.cgi?e=e&j=p&pdfname=kxg; ComponentLink2Description: Digi-Key Listing; ComponentLink2URL: https://www.digikey.com/product-detail/en/united-chemi-con/EKXG201ELL220MJ20S/565-1433-ND/755949; Tolerance: 20%; Voltage: 200V; Price: 0.77; Device Package: Radial, Can, 10mm
footprint CAP AL TH D10 L5 H22
pins: 1, 2

## EKXG201ELL330MJ20S
designator C?, comment 33uF  (value not drawn)
CAP ALUM 33UF 20% 200V RADIAL; Part Number: EKXG201ELL330MJ20S; Manufacturer: United Chemi-Con; TemperatureRange: -40C ~ 105C; Type: Polar; Ripple Current: 260mA @ 120Hz; Value: 33uF; PartId: 25664; Supplier 1: Digi-Key; Supplier Part Number 1: 565-1434-ND; ComponentLink1Description: Datasheet; ComponentLink1URL: http://www.chemi-con.co.jp/cgi-bin/CAT_DB/SEARCH/cat_db_al.cgi?e=e&j=p&pdfname=kxg; ComponentLink2Description: Digi-Key Listing; ComponentLink2URL: https://www.digikey.com/product-detail/en/united-chemi-con/EKXG201ELL330MJ20S/565-1434-ND/755950; Tolerance: 20%; Voltage: 200V; Price: 0.76; Device Package: Radial, Can, 10mm
footprint CAP AL TH D10 L5 H22
pins: 1, 2

## EKXG201ELL470MK20S
designator C?, comment 47uF  (value not drawn)
CAP ALUM 47UF 20% 200V RADIAL; Part Number: EKXG201ELL470MK20S; Manufacturer: United Chemi-Con; TemperatureRange: -40C ~ 105C; Type: Polar; Ripple Current: 390mA @ 120Hz; Value: 47uF; PartId: 22937; Supplier 1: Digi-Key; Supplier Part Number 1: 565-1435-ND; ComponentLink1Description: Datasheet; ComponentLink1URL: http://www.chemi-con.co.jp/cgi-bin/CAT_DB/SEARCH/cat_db_al.cgi?e=e&j=p&pdfname=kxg; ComponentLink2Description: Digi-Key Listing; ComponentLink2URL: https://www.digikey.com/product-detail/en/united-chemi-con/EKXG201ELL470MK20S/565-1435-ND/755951; Tolerance: 20%; Voltage: 200V; Price: 0; Device Package: Radial, Can, 12.5mm
footprint CAP AL TH D12.5 L5 H20
pins: 1, 2

## EKXG201ELL680MK20S
designator C?, comment 68uF  (value not drawn)
CAP ALUM 68UF 20% 200V RADIAL; Part Number: EKXG201ELL680MK20S; Manufacturer: United Chemi-Con; TemperatureRange: -40C ~ 105C; Type: Polar; Ripple Current: 470mA @ 120Hz; Value: 68uF; PartId: 22936; Supplier 1: Digi-Key; Supplier Part Number 1: 565-1436-ND; ComponentLink1Description: Datasheet; ComponentLink1URL: http://www.chemi-con.co.jp/cgi-bin/CAT_DB/SEARCH/cat_db_al.cgi?e=e&j=p&pdfname=kxg; ComponentLink2Description: Digi-Key Listing; ComponentLink2URL: https://www.digikey.com/product-detail/en/united-chemi-con/EKXG201ELL680MK20S/565-1436-ND/755952; Tolerance: 20%; Voltage: 200V; Price: 0; Device Package: Radial, Can, 12.5mm
footprint CAP AL TH D12.5 L5 H20
pins: 1, 2

## EKXG251ELL100MJ20S
designator C?, comment 10uF  (value not drawn)
CAP ALUM 10UF 20% 250V RADIAL; Part Number: EKXG251ELL100MJ20S; Manufacturer: United Chemi-Con; TemperatureRange: -40C ~ 105C; Type: Polar; Ripple Current: 140mA @ 120Hz; Value: 10uF; PartId: 25658; Supplier 1: Digi-Key; Supplier Part Number 1: 565-1441-ND; ComponentLink1Description: Datasheet; ComponentLink1URL: http://www.chemi-con.co.jp/cgi-bin/CAT_DB/SEARCH/cat_db_al.cgi?e=e&j=p&pdfname=kxg; ComponentLink2Description: Digi-Key Listing; ComponentLink2URL: https://www.digikey.com/product-detail/en/united-chemi-con/EKXG251ELL100MJ20S/565-1441-ND/755957; Tolerance: 20%; Voltage: 250V; Price: 0.75; Device Package: Radial, Can, 10mm
footprint CAP AL TH D10 L5 H22
pins: 1, 2

## EKXG251ELL101ML25S
designator C?, comment 100uF  (value not drawn)
CAP ALUM 100UF 20% 250V RADIAL; Part Number: EKXG251ELL101ML25S; Manufacturer: United Chemi-Con; TemperatureRange: -40C ~ 105C; Type: Polar; Ripple Current: 680mA @ 120Hz; Value: 100uF; PartId: 26693; Supplier 1: Digi-Key; Supplier Part Number 1: 565-1447-ND; ComponentLink1Description: Datasheet; ComponentLink1URL: http://www.chemi-con.co.jp/cgi-bin/CAT_DB/SEARCH/cat_db_al.cgi?e=e&j=p&pdfname=kxg; ComponentLink2Description: Digi-Key Listing; ComponentLink2URL: https://www.digikey.com/product-detail/en/united-chemi-con/EKXG251ELL101ML25S/565-1447-ND/755963; Tolerance: 20%; Voltage: 250V; Price: 1.85; Device Package: Radial, Can, 16mm
footprint CAP AL TH D16 L7.5 H26.5
pins: 1, 2

## EKXG251ELL220MJ20S
designator C?, comment 22uF  (value not drawn)
CAP ALUM 22UF 20% 250V RADIAL; Part Number: EKXG251ELL220MJ20S; Manufacturer: United Chemi-Con; TemperatureRange: -40C ~ 105C; Type: Polar; Ripple Current: 200mA @ 120Hz; Value: 22uF; PartId: 25698; Supplier 1: Digi-Key; Supplier Part Number 1: 565-1442-ND; ComponentLink1Description: Datasheet; ComponentLink1URL: http://www.chemi-con.co.jp/cgi-bin/CAT_DB/SEARCH/cat_db_al.cgi?e=e&j=p&pdfname=kxg; ComponentLink2Description: Digi-Key Listing; ComponentLink2URL: https://www.digikey.com/product-detail/en/united-chemi-con/EKXG251ELL220MJ20S/565-1442-ND/755958; Tolerance: 20%; Voltage: 250V; Price: 0.85; Device Package: Radial, Can, 10mm
footprint CAP AL TH D10 L5 H22
pins: 1, 2

## EKXG251ELL470MK20S
designator C?, comment 47uF  (value not drawn)
CAP ALUM 47UF 20% 250V RADIAL; Part Number: EKXG251ELL470MK20S; Manufacturer: United Chemi-Con; TemperatureRange: -40C ~ 105C; Type: Polar; Ripple Current: 390mA @ 120Hz; Value: 47uF; PartId: 22934; Supplier 1: Digi-Key; Supplier Part Number 1: 565-1444-ND; ComponentLink1Description: Datasheet; ComponentLink1URL: http://www.chemi-con.co.jp/cgi-bin/CAT_DB/SEARCH/cat_db_al.cgi?e=e&j=p&pdfname=kxg; ComponentLink2Description: Digi-Key Listing; ComponentLink2URL: https://www.digikey.com/product-detail/en/united-chemi-con/EKXG251ELL470MK20S/565-1444-ND/755960; Tolerance: 20%; Voltage: 250V; Price: 0; Device Package: Radial, Can, 12.5mm
footprint CAP AL TH D12.5 L5 H20
pins: 1, 2

## EKXG251ELL680ML20S
designator C?, comment 68uF  (value not drawn)
CAP ALUM 68UF 20% 250V RADIAL; Part Number: EKXG251ELL680ML20S; Manufacturer: United Chemi-Con; TemperatureRange: -40C ~ 105C; Type: Polar; Ripple Current: 520mA @ 120Hz; Value: 68uF; PartId: 26340; Supplier 1: Digi-Key; Supplier Part Number 1: 565-1445-ND; ComponentLink1Description: Datasheet; ComponentLink1URL: http://www.chemi-con.co.jp/cgi-bin/CAT_DB/SEARCH/cat_db_al.cgi?e=e&j=p&pdfname=kxg; ComponentLink2Description: Digi-Key Listing; ComponentLink2URL: https://www.digikey.com/product-detail/en/united-chemi-con/EKXG251ELL680ML20S/565-1445-ND/755961; Tolerance: 20%; Voltage: 250V; Price: 1.51; Device Package: Radial, Can, 16mm
footprint CAP AL TH D16 L7.5 H20
pins: 1, 2

## EKXG251ELL820ML20S
designator C?, comment 82uF  (value not drawn)
CAP ALUM 82UF 20% 250V RADIAL; Part Number: EKXG251ELL820ML20S; Manufacturer: United Chemi-Con; TemperatureRange: -40C ~ 105C; Type: Polar; Ripple Current: 550mA @ 120Hz; Value: 82uF; PartId: 26342; Supplier 1: Digi-Key; Supplier Part Number 1: 565-1446-ND; ComponentLink1Description: Datasheet; ComponentLink1URL: http://www.chemi-con.co.jp/cgi-bin/CAT_DB/SEARCH/cat_db_al.cgi?e=e&j=p&pdfname=kxg; ComponentLink2Description: Digi-Key Listing; ComponentLink2URL: https://www.digikey.com/product-detail/en/united-chemi-con/EKXG251ELL820ML20S/565-1446-ND/755962; Tolerance: 20%; Voltage: 250V; Price: 1.66; Device Package: Radial, Can, 16mm
footprint CAP AL TH D16 L7.5 H20
pins: 1, 2

## EKXG351ELL6R8MJ16S
designator C?, comment 6.8uF  (value not drawn)
CAP ALUM 6.8UF 20% 350V RADIAL; Part Number: EKXG351ELL6R8MJ16S; Manufacturer: United Chemi-Con; TemperatureRange: -40C ~ 105C; Type: Polar; Ripple Current: 110mA @ 120Hz; Value: 6.8uF; PartId: 25382; Supplier 1: Digi-Key; Supplier Part Number 1: 565-1449-ND; ComponentLink1Description: Datasheet; ComponentLink1URL: http://www.chemi-con.co.jp/cgi-bin/CAT_DB/SEARCH/cat_db_al.cgi?e=e&j=p&pdfname=kxg; ComponentLink2Description: Digi-Key Listing; ComponentLink2URL: https://www.digikey.com/product-detail/en/united-chemi-con/EKXG351ELL6R8MJ16S/565-1449-ND/755965; Tolerance: 20%; Voltage: 350V; Price: 0.75; Device Package: Radial, Can, 10mm
footprint CAP AL TH D10 L5 H17.5
pins: 1, 2

## EKXG351ELL100MJ20S
designator C?, comment 10uF  (value not drawn)
CAP ALUM 10UF 20% 350V RADIAL; Part Number: EKXG351ELL100MJ20S; Manufacturer: United Chemi-Con; TemperatureRange: -40C ~ 105C; Type: Polar; Ripple Current: 140mA @ 120Hz; Value: 10uF; PartId: 25682; Supplier 1: Digi-Key; Supplier Part Number 1: 565-1450-ND; ComponentLink1Description: Datasheet; ComponentLink1URL: http://www.chemi-con.co.jp/cgi-bin/CAT_DB/SEARCH/cat_db_al.cgi?e=e&j=p&pdfname=kxg; ComponentLink2Description: Digi-Key Listing; ComponentLink2URL: https://www.digikey.com/product-detail/en/united-chemi-con/EKXG351ELL100MJ20S/565-1450-ND/755966; Tolerance: 20%; Voltage: 350V; Price: 0.8; Device Package: Radial, Can, 10mm
footprint CAP AL TH D10 L5 H22
pins: 1, 2

## EKXG351ELL220MK20S
designator C?, comment 22uF  (value not drawn)
CAP ALUM 22UF 20% 350V RADIAL; Part Number: EKXG351ELL220MK20S; Manufacturer: United Chemi-Con; TemperatureRange: -40C ~ 105C; Type: Polar; Ripple Current: 260mA @ 120Hz; Value: 22uF; PartId: 22938; Supplier 1: Digi-Key; Supplier Part Number 1: 565-1451-ND; ComponentLink1Description: Datasheet; ComponentLink1URL: http://www.chemi-con.co.jp/cgi-bin/CAT_DB/SEARCH/cat_db_al.cgi?e=e&j=p&pdfname=kxg; ComponentLink2Description: Digi-Key Listing; ComponentLink2URL: https://www.digikey.com/product-detail/en/united-chemi-con/EKXG351ELL220MK20S/565-1451-ND/755967; Tolerance: 20%; Voltage: 350V; Price: 0; Device Package: Radial, Can, 12.5mm
footprint CAP AL TH D12.5 L5 H20
pins: 1, 2

## EKXG351ELL330ML20S
designator C?, comment 33uF  (value not drawn)
CAP ALUM 33UF 20% 350V RADIAL; Part Number: EKXG351ELL330ML20S; Manufacturer: United Chemi-Con; TemperatureRange: -40C ~ 105C; Type: Polar; Ripple Current: 360mA @ 120Hz; Value: 33uF; PartId: 26344; Supplier 1: Digi-Key; Supplier Part Number 1: 565-1452-ND; ComponentLink1Description: Datasheet; ComponentLink1URL: http://www.chemi-con.co.jp/cgi-bin/CAT_DB/SEARCH/cat_db_al.cgi?e=e&j=p&pdfname=kxg; ComponentLink2Description: Digi-Key Listing; ComponentLink2URL: https://www.digikey.com/product-detail/en/united-chemi-con/EKXG351ELL330ML20S/565-1452-ND/755968; Tolerance: 20%; Voltage: 350V; Price: 1.66; Device Package: Radial, Can, 16mm
footprint CAP AL TH D16 L7.5 H20
pins: 1, 2

## EKXG351ELL470ML20S
designator C?, comment 47uF  (value not drawn)
CAP ALUM 47UF 20% 350V RADIAL; Part Number: EKXG351ELL470ML20S; Manufacturer: United Chemi-Con; TemperatureRange: -40C ~ 105C; Type: Polar; Ripple Current: 430mA @ 120Hz; Value: 47uF; PartId: 26346; Supplier 1: Digi-Key; Supplier Part Number 1: 565-1453-ND; ComponentLink1Description: Datasheet; ComponentLink1URL: http://www.chemi-con.co.jp/cgi-bin/CAT_DB/SEARCH/cat_db_al.cgi?e=e&j=p&pdfname=kxg; ComponentLink2Description: Digi-Key Listing; ComponentLink2URL: https://www.digikey.com/product-detail/en/united-chemi-con/EKXG351ELL470ML20S/565-1453-ND/755969; Tolerance: 20%; Voltage: 350V; Price: 1.78; Device Package: Radial, Can, 16mm
footprint CAP AL TH D16 L7.5 H20
pins: 1, 2

## EKXG351ELL680ML25S
designator C?, comment 68uF  (value not drawn)
CAP ALUM 68UF 20% 350V RADIAL; Part Number: EKXG351ELL680ML25S; Manufacturer: United Chemi-Con; TemperatureRange: -40C ~ 105C; Type: Polar; Ripple Current: 560mA @ 120Hz; Value: 68uF; PartId: 26700; Supplier 1: Digi-Key; Supplier Part Number 1: 565-1454-ND; ComponentLink1Description: Datasheet; ComponentLink1URL: http://www.chemi-con.co.jp/cgi-bin/CAT_DB/SEARCH/cat_db_al.cgi?e=e&j=p&pdfname=kxg; ComponentLink2Description: Digi-Key Listing; ComponentLink2URL: https://www.digikey.com/product-detail/en/united-chemi-con/EKXG351ELL680ML25S/565-1454-ND/755970; Tolerance: 20%; Voltage: 350V; Price: 1.97; Device Package: Radial, Can, 16mm
footprint CAP AL TH D16 L7.5 H26.5
pins: 1, 2

## EKXG401ELL6R8MJ16S
designator C?, comment 6.8uF  (value not drawn)
CAP ALUM 6.8UF 20% 400V RADIAL; Part Number: EKXG401ELL6R8MJ16S; Manufacturer: United Chemi-Con; TemperatureRange: -40C ~ 105C; Type: Polar; Ripple Current: 110mA @ 120Hz; Value: 6.8uF; PartId: 25360; Supplier 1: Digi-Key; Supplier Part Number 1: 565-1460-ND; ComponentLink1Description: Datasheet; ComponentLink1URL: http://www.chemi-con.co.jp/cgi-bin/CAT_DB/SEARCH/cat_db_al.cgi?e=e&j=p&pdfname=kxg; ComponentLink2Description: Digi-Key Listing; ComponentLink2URL: https://www.digikey.com/product-detail/en/united-chemi-con/EKXG401ELL6R8MJ16S/565-1460-ND/755976; Tolerance: 20%; Voltage: 400V; Price: 0.71; Device Package: Radial, Can, 10mm
footprint CAP AL TH D10 L5 H17.5
pins: 1, 2

## EKXG401ELL100MJ20S
designator C?, comment 10uF  (value not drawn)
CAP ALUM 10UF 20% 400V RADIAL; Part Number: EKXG401ELL100MJ20S; Manufacturer: United Chemi-Con; TemperatureRange: -40C ~ 105C; Type: Polar; Ripple Current: 140mA @ 120Hz; Value: 10uF; PartId: 25695; Supplier 1: Digi-Key; Supplier Part Number 1: 565-1461-ND; ComponentLink1Description: Datasheet; ComponentLink1URL: http://www.chemi-con.co.jp/cgi-bin/CAT_DB/SEARCH/cat_db_al.cgi?e=e&j=p&pdfname=kxg; ComponentLink2Description: Digi-Key Listing; ComponentLink2URL: https://www.digikey.com/product-detail/en/united-chemi-con/EKXG401ELL100MJ20S/565-1461-ND/755977; Tolerance: 20%; Voltage: 400V; Price: 0.83; Device Package: Radial, Can, 10mm
footprint CAP AL TH D10 L5 H22
pins: 1, 2

## EKXG401ELL150MK20S
designator C?, comment 15uF  (value not drawn)
CAP ALUM 15UF 20% 400V RADIAL; Part Number: EKXG401ELL150MK20S; Manufacturer: United Chemi-Con; TemperatureRange: -40C ~ 105C; Type: Polar; Ripple Current: 220mA @ 120Hz; Value: 15uF; PartId: 22941; Supplier 1: Digi-Key; Supplier Part Number 1: 565-1462-ND; ComponentLink1Description: Datasheet; ComponentLink1URL: http://www.chemi-con.co.jp/cgi-bin/CAT_DB/SEARCH/cat_db_al.cgi?e=e&j=p&pdfname=kxg; ComponentLink2Description: Digi-Key Listing; ComponentLink2URL: https://www.digikey.com/product-detail/en/united-chemi-con/EKXG401ELL150MK20S/565-1462-ND/755978; Tolerance: 20%; Voltage: 400V; Price: 0; Device Package: Radial, Can, 12.5mm
footprint CAP AL TH D12.5 L5 H20
pins: 1, 2

## EKXG401ELL220MK20S
designator C?, comment 22uF  (value not drawn)
CAP ALUM 22UF 20% 400V RADIAL; Part Number: EKXG401ELL220MK20S; Manufacturer: United Chemi-Con; TemperatureRange: -40C ~ 105C; Type: Polar; Ripple Current: 260mA @ 120Hz; Value: 22uF; PartId: 22940; Supplier 1: Digi-Key; Supplier Part Number 1: 565-1463-ND; ComponentLink1Description: Datasheet; ComponentLink1URL: http://www.chemi-con.co.jp/cgi-bin/CAT_DB/SEARCH/cat_db_al.cgi?e=e&j=p&pdfname=kxg; ComponentLink2Description: Digi-Key Listing; ComponentLink2URL: https://www.digikey.com/product-detail/en/united-chemi-con/EKXG401ELL220MK20S/565-1463-ND/755979; Tolerance: 20%; Voltage: 400V; Price: 0; Device Package: Radial, Can, 12.5mm
footprint CAP AL TH D12.5 L5 H20
pins: 1, 2

## EKXG401ELL330ML20S
designator C?, comment 33uF  (value not drawn)
CAP ALUM 33UF 20% 400V RADIAL; Part Number: EKXG401ELL330ML20S; Manufacturer: United Chemi-Con; TemperatureRange: -40C ~ 105C; Type: Polar; Ripple Current: 360mA @ 120Hz; Value: 33uF; PartId: 26341; Supplier 1: Digi-Key; Supplier Part Number 1: 565-1464-ND; ComponentLink1Description: Datasheet; ComponentLink1URL: http://www.chemi-con.co.jp/cgi-bin/CAT_DB/SEARCH/cat_db_al.cgi?e=e&j=p&pdfname=kxg; ComponentLink2Description: Digi-Key Listing; ComponentLink2URL: https://www.digikey.com/product-detail/en/united-chemi-con/EKXG401ELL330ML20S/565-1464-ND/755980; Tolerance: 20%; Voltage: 400V; Price: 1.62; Device Package: Radial, Can, 16mm
footprint CAP AL TH D16 L7.5 H20
pins: 1, 2

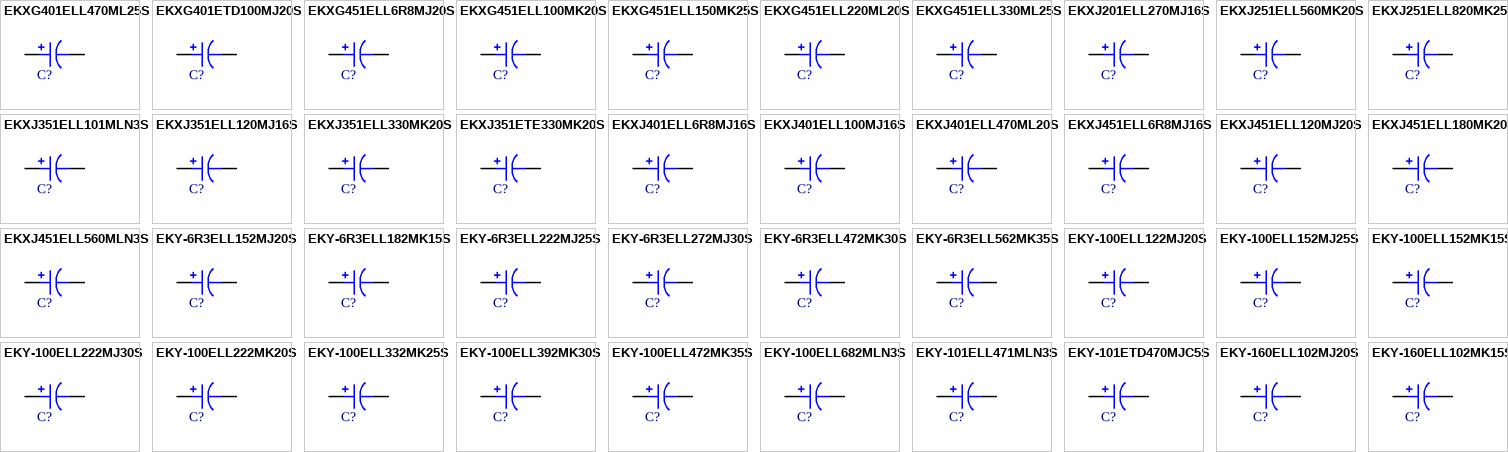
[diagram p43: symbols EKXG401ELL470ML25S to EKY-160ELL102MK15S]

## EKXG401ELL470ML25S
designator C?, comment 47uF  (value not drawn)
CAP ALUM 47UF 20% 400V RADIAL; Part Number: EKXG401ELL470ML25S; Manufacturer: United Chemi-Con; TemperatureRange: -40C ~ 105C; Type: Polar; Ripple Current: 470mA @ 120Hz; Value: 47uF; PartId: 26699; Supplier 1: Digi-Key; Supplier Part Number 1: 565-1465-ND; ComponentLink1Description: Datasheet; ComponentLink1URL: http://www.chemi-con.co.jp/cgi-bin/CAT_DB/SEARCH/cat_db_al.cgi?e=e&j=p&pdfname=kxg; ComponentLink2Description: Digi-Key Listing; ComponentLink2URL: https://www.digikey.com/product-detail/en/united-chemi-con/EKXG401ELL470ML25S/565-1465-ND/755981; Tolerance: 20%; Voltage: 400V; Price: 1.96; Device Package: Radial, Can, 16mm
footprint CAP AL TH D16 L7.5 H26.5
pins: 1, 2